# Altium schematic symbol library kmilo17pet-NSC_MiscPower.SchLib: 1552 symbols (part 43 of 43)
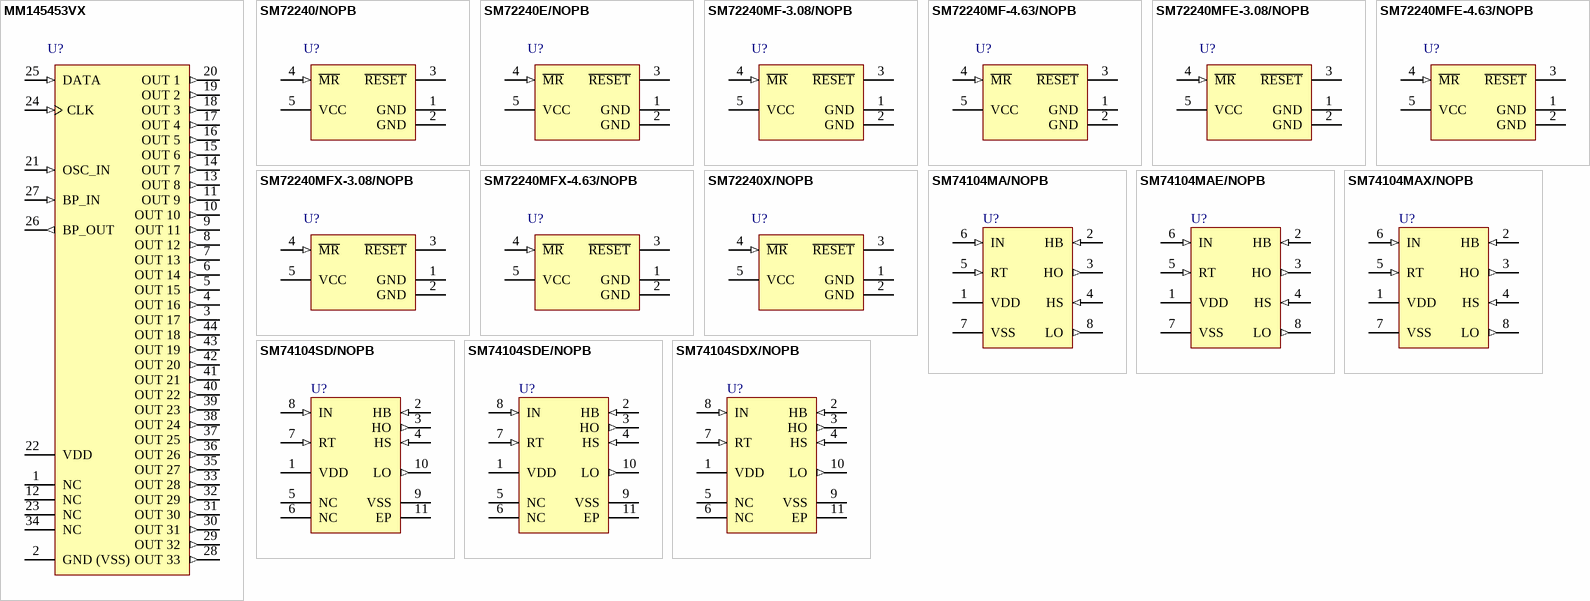
[diagram p99: symbols MM145453VX to SM74104SDX/NOPB]

## SM72240MFX-3.08/NOPB
designator U?
SolarMagic 5-Pin Microprocessor Reset Circuit, 5-pin SOT-23, 3000 Reel; PartNumber: SM72240MFX-3.08/NOPB; Manufacturer: National Semiconductor; PackageTopMarking: R133*XTT; PowerWise: N; CompType: MiscPower; High-Reliability: Y; DatasheetVersion: Jun-2011; PackageVersion: revD, Aug-2008; PackageReference: MF05A; PackageDescription: Molded SOT-23, .115 x .063 x .040 in Body, 5 Lead, .0375 in Pitch; RoHS: Y; PinCount: 5; ComponentLink1Description: Manufacturer URL; ComponentLink1URL: http://www.national.com/; ComponentLink2Description: SM72240 Datasheet; ComponentLink2URL: http://www.national.com/ds/SM/SM72240.pdf; ComponentLink3Description: SM72240 Web Page; ComponentLink3URL: http://www.national.com/pf/SM/SM72240.html; ComponentLink4Description: MF05A Package Page; ComponentLink4URL: http://www.national.com/packaging/folders/mf05a.html
footprint MF05A_N (SOT23, 5-Leads, Body 2.9x1.6mm, Pitch 0.95mm, Lead Span 2.8mm, IPC Medium Density)
footprint MF05A_L (SOT23, 5-Leads, Body 2.9x1.6mm, Pitch 0.95mm, Lead Span 2.8mm, IPC High Density)
footprint MF05A_M (SOT23, 5-Leads, Body 2.9x1.6mm, Pitch 0.95mm, Lead Span 2.8mm, IPC Low Density)
pins: 1 GND (power), 2 GND (power), 3 ~{RESET} (oc), 4 ~{MR} (in), 5 VCC (power)

## SM72240MFX-4.63/NOPB
designator U?
SolarMagic 5-Pin Microprocessor Reset Circuit, 5-pin SOT-23, 3000 Reel; PartNumber: SM72240MFX-4.63/NOPB; Manufacturer: National Semiconductor; PackageTopMarking: 2240*XTT; PowerWise: N; CompType: MiscPower; High-Reliability: Y; DatasheetVersion: Jun-2011; PackageVersion: revD, Aug-2008; PackageReference: MF05A; PackageDescription: Molded SOT-23, .115 x .063 x .040 in Body, 5 Lead, .0375 in Pitch; RoHS: Y; PinCount: 5; ComponentLink1Description: Manufacturer URL; ComponentLink1URL: http://www.national.com/; ComponentLink2Description: SM72240 Datasheet; ComponentLink2URL: http://www.national.com/ds/SM/SM72240.pdf; ComponentLink3Description: SM72240 Web Page; ComponentLink3URL: http://www.national.com/pf/SM/SM72240.html; ComponentLink4Description: MF05A Package Page; ComponentLink4URL: http://www.national.com/packaging/folders/mf05a.html
footprint MF05A_N (SOT23, 5-Leads, Body 2.9x1.6mm, Pitch 0.95mm, Lead Span 2.8mm, IPC Medium Density)
footprint MF05A_L (SOT23, 5-Leads, Body 2.9x1.6mm, Pitch 0.95mm, Lead Span 2.8mm, IPC High Density)
footprint MF05A_M (SOT23, 5-Leads, Body 2.9x1.6mm, Pitch 0.95mm, Lead Span 2.8mm, IPC Low Density)
pins: 1 GND (power), 2 GND (power), 3 ~{RESET} (oc), 4 ~{MR} (in), 5 VCC (power)

## SM72240X/NOPB
designator U?
SolarMagic 5-Pin Microprocessor Reset Circuits, 5-pin SOT-23, 3000 Reel, Pb-Free; PartNumber: SM72240X/NOPB; Manufacturer: National Semiconductor; PackageTopMarking: 2240*XTT; PowerWise: N; CompType: MiscPower; High-Reliability: Y; DatasheetVersion: Feb-2011; PackageVersion: revD, Aug-2008; PackageReference: MF05A; PackageDescription: Molded SOT-23, .115 x .063 x .040 in Body, 5 Lead, .0375 in Pitch; RoHS: Y; PinCount: 5; ComponentLink1Description: Manufacturer URL; ComponentLink1URL: http://www.national.com/; ComponentLink2Description: SM72240 Datasheet; ComponentLink2URL: http://www.national.com/ds/SM/SM72240.pdf; ComponentLink3Description: SM72240 Web Page; ComponentLink3URL: http://www.national.com/pf/SM/SM72240.html; ComponentLink4Description: MF05A Package Page; ComponentLink4URL: http://www.national.com/packaging/folders/mf05a.html
footprint MF05A_N (SOT23, 5-Leads, Body 2.9x1.6mm, Pitch 0.95mm, Lead Span 2.8mm, IPC Medium Density)
footprint MF05A_L (SOT23, 5-Leads, Body 2.9x1.6mm, Pitch 0.95mm, Lead Span 2.8mm, IPC High Density)
footprint MF05A_M (SOT23, 5-Leads, Body 2.9x1.6mm, Pitch 0.95mm, Lead Span 2.8mm, IPC Low Density)
pins: 1 GND (power), 2 GND (power), 3 ~{RESET} (oc), 4 ~{MR} (in), 5 VCC (power)

## SM74104MA/NOPB
designator U?
High Voltage Half-Bridge Gate Driver with Adaptive Delay, 8-pin Narrow SOIC; PartNumber: SM74104MA/NOPB; Manufacturer: National Semiconductor; PackageTopMarking: NSZXTT*74104*MA; PowerWise: N; CompType: MiscPower; High-Reliability: Y; DatasheetVersion: Jul-2011; PackageVersion: revM, May-2009; PackageReference: M08A; PackageDescription: SOIC Narrow, 4.9 x 3.9 x 1.45mm, 8 Lead, 1.27mm Pitch; RoHS: Y; PinCount: 8; Code_JEDEC: MS-012-AA; Code_IPC: SOIC127P600-8; ComponentLink1Description: Manufacturer URL; ComponentLink1URL: http://www.national.com/; ComponentLink2Description: SM74104 Datasheet; ComponentLink2URL: http://www.national.com/ds/SM/SM74104.pdf; ComponentLink3Description: SM74104 Web Page; ComponentLink3URL: http://www.national.com/pf/SM/SM74104.html; ComponentLink4Description: M08A Package Page; ComponentLink4URL: http://www.national.com/packaging/folders/m08a.html
footprint M08A_N (SOIC, 8-Leads, Body 4.9x3.9mm, Pitch 1.27mm, IPC Medium Density)
footprint M08A_L (SOIC, 8-Leads, Body 4.9x3.9mm, Pitch 1.27mm, IPC High Density)
footprint M08A_M (SOIC, 8-Leads, Body 4.9x3.9mm, Pitch 1.27mm, IPC Low Density)
pins: 1 VDD (power), 2 HB (in), 3 HO (out), 4 HS (in), 5 RT (in), 6 IN (in), 7 VSS (power), 8 LO (out)

## SM74104MAE/NOPB
designator U?
High Voltage Half-Bridge Gate Driver with Adaptive Delay, 8-pin Narrow SOIC; PartNumber: SM74104MAE/NOPB; Manufacturer: National Semiconductor; PackageTopMarking: NSZXTT*74104*MA; PowerWise: N; CompType: MiscPower; High-Reliability: Y; DatasheetVersion: Jul-2011; PackageVersion: revM, May-2009; PackageReference: M08A; PackageDescription: SOIC Narrow, 4.9 x 3.9 x 1.45mm, 8 Lead, 1.27mm Pitch; RoHS: Y; PinCount: 8; Code_JEDEC: MS-012-AA; Code_IPC: SOIC127P600-8; ComponentLink1Description: Manufacturer URL; ComponentLink1URL: http://www.national.com/; ComponentLink2Description: SM74104 Datasheet; ComponentLink2URL: http://www.national.com/ds/SM/SM74104.pdf; ComponentLink3Description: SM74104 Web Page; ComponentLink3URL: http://www.national.com/pf/SM/SM74104.html; ComponentLink4Description: M08A Package Page; ComponentLink4URL: http://www.national.com/packaging/folders/m08a.html
footprint M08A_N (SOIC, 8-Leads, Body 4.9x3.9mm, Pitch 1.27mm, IPC Medium Density)
footprint M08A_L (SOIC, 8-Leads, Body 4.9x3.9mm, Pitch 1.27mm, IPC High Density)
footprint M08A_M (SOIC, 8-Leads, Body 4.9x3.9mm, Pitch 1.27mm, IPC Low Density)
pins: 1 VDD (power), 2 HB (in), 3 HO (out), 4 HS (in), 5 RT (in), 6 IN (in), 7 VSS (power), 8 LO (out)

## SM74104MAX/NOPB
designator U?
High Voltage Half-Bridge Gate Driver with Adaptive Delay, 8-pin Narrow SOIC; PartNumber: SM74104MAX/NOPB; Manufacturer: National Semiconductor; PackageTopMarking: NSZXTT*74104*MA; PowerWise: N; CompType: MiscPower; High-Reliability: Y; DatasheetVersion: Jul-2011; PackageVersion: revM, May-2009; PackageReference: M08A; PackageDescription: SOIC Narrow, 4.9 x 3.9 x 1.45mm, 8 Lead, 1.27mm Pitch; RoHS: Y; PinCount: 8; Code_JEDEC: MS-012-AA; Code_IPC: SOIC127P600-8; ComponentLink1Description: Manufacturer URL; ComponentLink1URL: http://www.national.com/; ComponentLink2Description: SM74104 Datasheet; ComponentLink2URL: http://www.national.com/ds/SM/SM74104.pdf; ComponentLink3Description: SM74104 Web Page; ComponentLink3URL: http://www.national.com/pf/SM/SM74104.html; ComponentLink4Description: M08A Package Page; ComponentLink4URL: http://www.national.com/packaging/folders/m08a.html
footprint M08A_N (SOIC, 8-Leads, Body 4.9x3.9mm, Pitch 1.27mm, IPC Medium Density)
footprint M08A_L (SOIC, 8-Leads, Body 4.9x3.9mm, Pitch 1.27mm, IPC High Density)
footprint M08A_M (SOIC, 8-Leads, Body 4.9x3.9mm, Pitch 1.27mm, IPC Low Density)
pins: 1 VDD (power), 2 HB (in), 3 HO (out), 4 HS (in), 5 RT (in), 6 IN (in), 7 VSS (power), 8 LO (out)

## SM74104SD/NOPB
designator U?
High Voltage Half-Bridge Gate Driver with Adaptive Delay, 10-pin LLP; PartNumber: SM74104SD/NOPB; Manufacturer: National Semiconductor; PackageTopMarking: NS*UZXYTT*S74104; PowerWise: N; CompType: MiscPower; High-Reliability: Y; DatasheetVersion: Jul-2011; PackageVersion: revA, May-2003; PackageReference: SDC10A; PackageDescription: LLP, Plastic, Dual, 4 x 4 x 0.8mm Body, 10 Lead, 0.8mm Pitch, No Pullback; RoHS: Y; PinCount: 10; ComponentLink1Description: Manufacturer URL; ComponentLink1URL: http://www.national.com/; ComponentLink2Description: SM74104 Datasheet; ComponentLink2URL: http://www.national.com/ds/SM/SM74104.pdf; ComponentLink3Description: SM74104 Web Page; ComponentLink3URL: http://www.national.com/pf/SM/SM74104.html; ComponentLink4Description: SDC10A Package Page; ComponentLink4URL: http://www.national.com/packaging/folders/sdc10a.html
footprint SDC10A (SON, 10-Leads, Body 4x4 mm, Pitch 0.8mm, NSC Recommended)
pins: 1 VDD (power), 2 HB (in), 3 HO (out), 4 HS (in), 5 NC, 6 NC, 7 RT (in), 8 IN (in), 9 VSS (power), 10 LO (out), 11 EP (power)

## SM74104SDE/NOPB
designator U?
High Voltage Half-Bridge Gate Driver with Adaptive Delay, 10-pin LLP; PartNumber: SM74104SDE/NOPB; Manufacturer: National Semiconductor; PackageTopMarking: NS*UZXYTT*S74104; PowerWise: N; CompType: MiscPower; High-Reliability: Y; DatasheetVersion: Jul-2011; PackageVersion: revA, May-2003; PackageReference: SDC10A; PackageDescription: LLP, Plastic, Dual, 4 x 4 x 0.8mm Body, 10 Lead, 0.8mm Pitch, No Pullback; RoHS: Y; PinCount: 10; ComponentLink1Description: Manufacturer URL; ComponentLink1URL: http://www.national.com/; ComponentLink2Description: SM74104 Datasheet; ComponentLink2URL: http://www.national.com/ds/SM/SM74104.pdf; ComponentLink3Description: SM74104 Web Page; ComponentLink3URL: http://www.national.com/pf/SM/SM74104.html; ComponentLink4Description: SDC10A Package Page; ComponentLink4URL: http://www.national.com/packaging/folders/sdc10a.html
footprint SDC10A (SON, 10-Leads, Body 4x4 mm, Pitch 0.8mm, NSC Recommended)
pins: 1 VDD (power), 2 HB (in), 3 HO (out), 4 HS (in), 5 NC, 6 NC, 7 RT (in), 8 IN (in), 9 VSS (power), 10 LO (out), 11 EP (power)

## SM74104SDX/NOPB
designator U?
High Voltage Half-Bridge Gate Driver with Adaptive Delay, 10-pin LLP; PartNumber: SM74104SDX/NOPB; Manufacturer: National Semiconductor; PackageTopMarking: NS*UZXYTT*S74104; PowerWise: N; CompType: MiscPower; High-Reliability: Y; DatasheetVersion: Jul-2011; PackageVersion: revA, May-2003; PackageReference: SDC10A; PackageDescription: LLP, Plastic, Dual, 4 x 4 x 0.8mm Body, 10 Lead, 0.8mm Pitch, No Pullback; RoHS: Y; PinCount: 10; ComponentLink1Description: Manufacturer URL; ComponentLink1URL: http://www.national.com/; ComponentLink2Description: SM74104 Datasheet; ComponentLink2URL: http://www.national.com/ds/SM/SM74104.pdf; ComponentLink3Description: SM74104 Web Page; ComponentLink3URL: http://www.national.com/pf/SM/SM74104.html; ComponentLink4Description: SDC10A Package Page; ComponentLink4URL: http://www.national.com/packaging/folders/sdc10a.html
footprint SDC10A (SON, 10-Leads, Body 4x4 mm, Pitch 0.8mm, NSC Recommended)
pins: 1 VDD (power), 2 HB (in), 3 HO (out), 4 HS (in), 5 NC, 6 NC, 7 RT (in), 8 IN (in), 9 VSS (power), 10 LO (out), 11 EP (power)